# Altium schematic symbol library SCH - MCU - NUVOTON - NUVOTON KM1M7AF00M.SchLib: 1 symbol
Pins are listed as number, name and electrical type; pins without a type are passive.

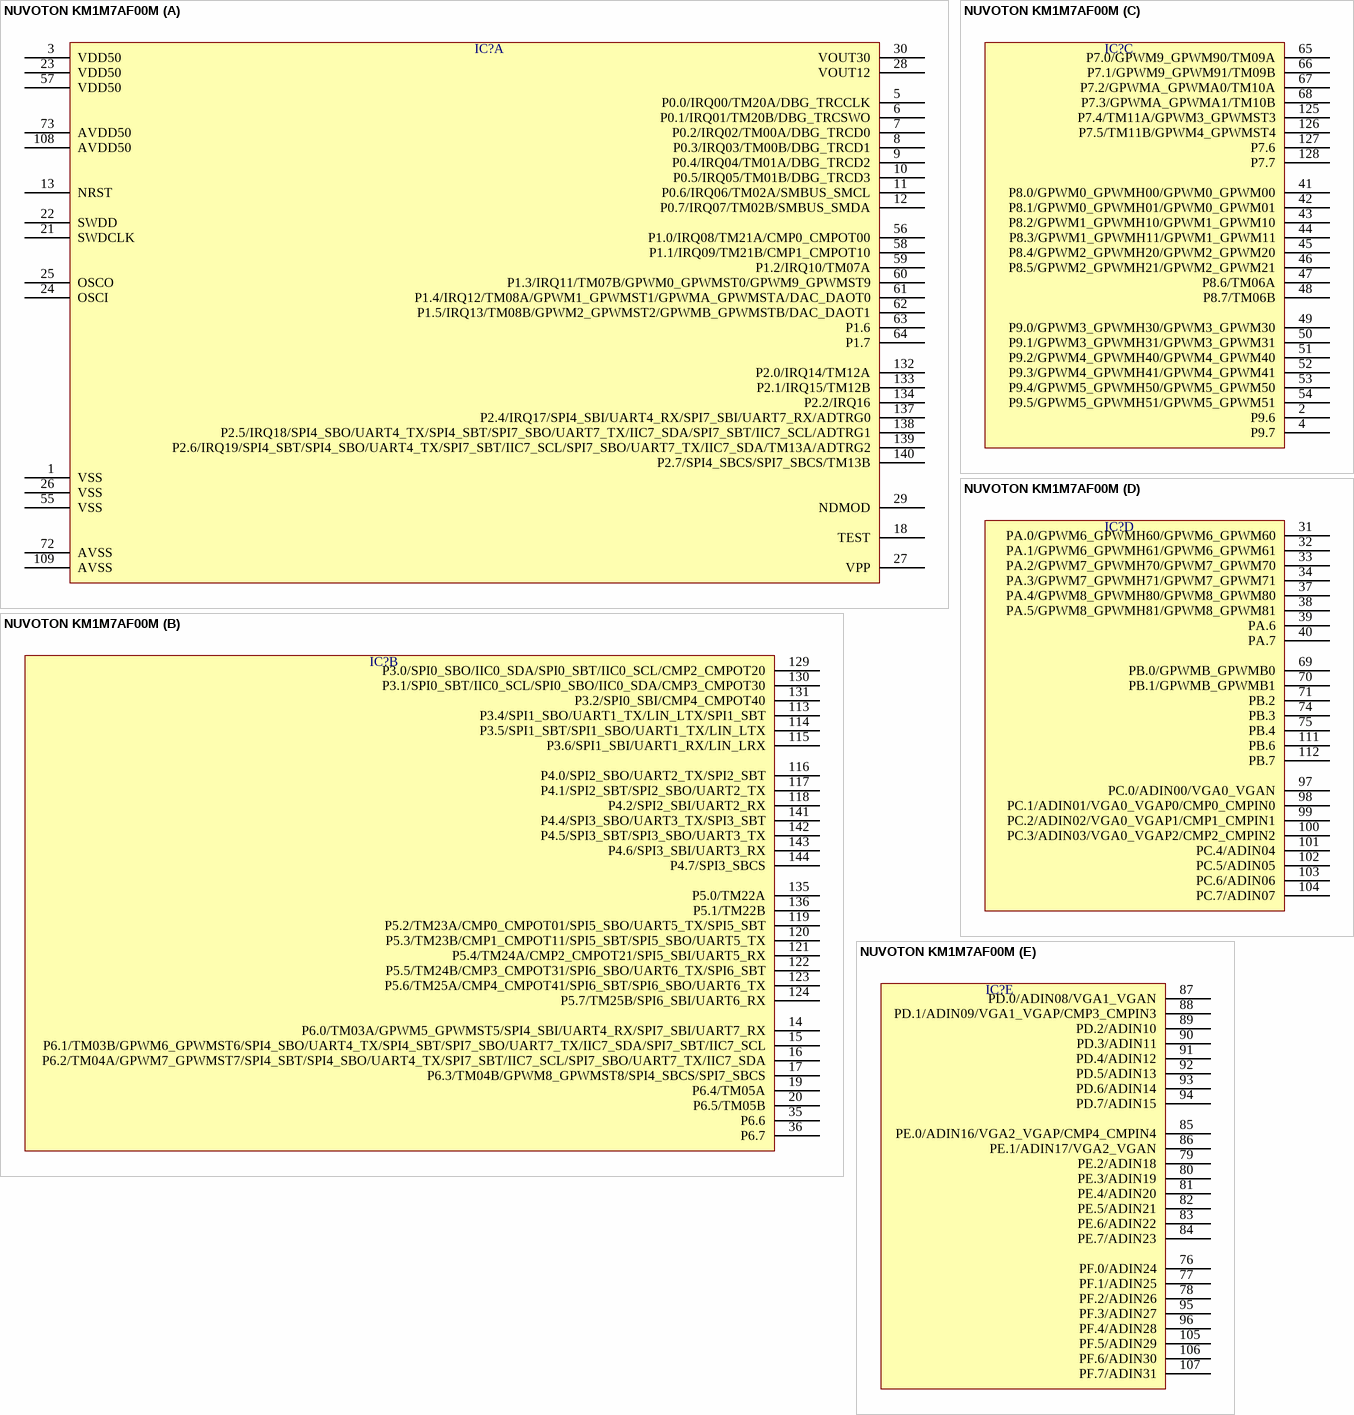
[diagram p0: symbol NUVOTON KM1M7AF00M]

## NUVOTON KM1M7AF00M
designator IC?  (value not drawn)
part A pins: 1 VSS, 3 VDD50, 5 P0.0/IRQ00/TM20A/DBG_TRCCLK, 6 P0.1/IRQ01/TM20B/DBG_TRCSWO, 7 P0.2/IRQ02/TM00A/DBG_TRCD0, 8 P0.3/IRQ03/TM00B/DBG_TRCD1, 9 P0.4/IRQ04/TM01A/DBG_TRCD2, 10 P0.5/IRQ05/TM01B/DBG_TRCD3, 11 P0.6/IRQ06/TM02A/SMBUS_SMCL, 12 P0.7/IRQ07/TM02B/SMBUS_SMDA, 13 NRST, 18 TEST, 21 SWDCLK, 22 SWDD, 23 VDD50, 24 OSCI, 25 OSCO, 26 VSS, 27 VPP, 28 VOUT12, 29 NDMOD, 30 VOUT30, 55 VSS, 56 P1.0/IRQ08/TM21A/CMP0_CMPOT00, 57 VDD50, 58 P1.1/IRQ09/TM21B/CMP1_CMPOT10, 59 P1.2/IRQ10/TM07A, 60 P1.3/IRQ11/TM07B/GPWM0_GPWMST0/GPWM9_GPWMST9, 61 P1.4/IRQ12/TM08A/GPWM1_GPWMST1/GPWMA_GPWMSTA/DAC_DAOT0, 62 P1.5/IRQ13/TM08B/GPWM2_GPWMST2/GPWMB_GPWMSTB/DAC_DAOT1, 63 P1.6, 64 P1.7, 72 AVSS, 73 AVDD50, 108 AVDD50, 109 AVSS, 132 P2.0/IRQ14/TM12A, 133 P2.1/IRQ15/TM12B, 134 P2.2/IRQ16, 137 P2.4/IRQ17/SPI4_SBI/UART4_RX/SPI7_SBI/UART7_RX/ADTRG0, 138 P2.5/IRQ18/SPI4_SBO/UART4_TX/SPI4_SBT/SPI7_SBO/UART7_TX/IIC7_SDA/SPI7_SBT/IIC7_SCL/ADTRG1, 139 P2.6/IRQ19/SPI4_SBT/SPI4_SBO/UART4_TX/SPI7_SBT/IIC7_SCL/SPI7_SBO/UART7_TX/IIC7_SDA/TM13A/ADTRG2, 140 P2.7/SPI4_SBCS/SPI7_SBCS/TM13B
part B pins: 14 P6.0/TM03A/GPWM5_GPWMST5/SPI4_SBI/UART4_RX/SPI7_SBI/UART7_RX, 15 P6.1/TM03B/GPWM6_GPWMST6/SPI4_SBO/UART4_TX/SPI4_SBT/SPI7_SBO/UART7_TX/IIC7_SDA/SPI7_SBT/IIC7_SCL, 16 P6.2/TM04A/GPWM7_GPWMST7/SPI4_SBT/SPI4_SBO/UART4_TX/SPI7_SBT/IIC7_SCL/SPI7_SBO/UART7_TX/IIC7_SDA, 17 P6.3/TM04B/GPWM8_GPWMST8/SPI4_SBCS/SPI7_SBCS, 19 P6.4/TM05A, 20 P6.5/TM05B, 35 P6.6, 36 P6.7, 113 P3.4/SPI1_SBO/UART1_TX/LIN_LTX/SPI1_SBT, 114 P3.5/SPI1_SBT/SPI1_SBO/UART1_TX/LIN_LTX, 115 P3.6/SPI1_SBI/UART1_RX/LIN_LRX, 116 P4.0/SPI2_SBO/UART2_TX/SPI2_SBT, 117 P4.1/SPI2_SBT/SPI2_SBO/UART2_TX, 118 P4.2/SPI2_SBI/UART2_RX, 119 P5.2/TM23A/CMP0_CMPOT01/SPI5_SBO/UART5_TX/SPI5_SBT, 120 P5.3/TM23B/CMP1_CMPOT11/SPI5_SBT/SPI5_SBO/UART5_TX, 121 P5.4/TM24A/CMP2_CMPOT21/SPI5_SBI/UART5_RX, 122 P5.5/TM24B/CMP3_CMPOT31/SPI6_SBO/UART6_TX/SPI6_SBT, 123 P5.6/TM25A/CMP4_CMPOT41/SPI6_SBT/SPI6_SBO/UART6_TX, 124 P5.7/TM25B/SPI6_SBI/UART6_RX, 129 P3.0/SPI0_SBO/IIC0_SDA/SPI0_SBT/IIC0_SCL/CMP2_CMPOT20, 130 P3.1/SPI0_SBT/IIC0_SCL/SPI0_SBO/IIC0_SDA/CMP3_CMPOT30, 131 P3.2/SPI0_SBI/CMP4_CMPOT40, 135 P5.0/TM22A, 136 P5.1/TM22B, 141 P4.4/SPI3_SBO/UART3_TX/SPI3_SBT, 142 P4.5/SPI3_SBT/SPI3_SBO/UART3_TX, 143 P4.6/SPI3_SBI/UART3_RX, 144 P4.7/SPI3_SBCS
part C pins: 2 P9.6, 4 P9.7, 41 P8.0/GPWM0_GPWMH00/GPWM0_GPWM00, 42 P8.1/GPWM0_GPWMH01/GPWM0_GPWM01, 43 P8.2/GPWM1_GPWMH10/GPWM1_GPWM10, 44 P8.3/GPWM1_GPWMH11/GPWM1_GPWM11, 45 P8.4/GPWM2_GPWMH20/GPWM2_GPWM20, 46 P8.5/GPWM2_GPWMH21/GPWM2_GPWM21, 47 P8.6/TM06A, 48 P8.7/TM06B, 49 P9.0/GPWM3_GPWMH30/GPWM3_GPWM30, 50 P9.1/GPWM3_GPWMH31/GPWM3_GPWM31, 51 P9.2/GPWM4_GPWMH40/GPWM4_GPWM40, 52 P9.3/GPWM4_GPWMH41/GPWM4_GPWM41, 53 P9.4/GPWM5_GPWMH50/GPWM5_GPWM50, 54 P9.5/GPWM5_GPWMH51/GPWM5_GPWM51, 65 P7.0/GPWM9_GPWM90/TM09A, 66 P7.1/GPWM9_GPWM91/TM09B, 67 P7.2/GPWMA_GPWMA0/TM10A, 68 P7.3/GPWMA_GPWMA1/TM10B, 125 P7.4/TM11A/GPWM3_GPWMST3, 126 P7.5/TM11B/GPWM4_GPWMST4, 127 P7.6, 128 P7.7
part D pins: 31 PA.0/GPWM6_GPWMH60/GPWM6_GPWM60, 32 PA.1/GPWM6_GPWMH61/GPWM6_GPWM61, 33 PA.2/GPWM7_GPWMH70/GPWM7_GPWM70, 34 PA.3/GPWM7_GPWMH71/GPWM7_GPWM71, 37 PA.4/GPWM8_GPWMH80/GPWM8_GPWM80, 38 PA.5/GPWM8_GPWMH81/GPWM8_GPWM81, 39 PA.6, 40 PA.7, 69 PB.0/GPWMB_GPWMB0, 70 PB.1/GPWMB_GPWMB1, 71 PB.2, 74 PB.3, 75 PB.4, 97 PC.0/ADIN00/VGA0_VGAN, 98 PC.1/ADIN01/VGA0_VGAP0/CMP0_CMPIN0, 99 PC.2/ADIN02/VGA0_VGAP1/CMP1_CMPIN1, 100 PC.3/ADIN03/VGA0_VGAP2/CMP2_CMPIN2, 101 PC.4/ADIN04, 102 PC.5/ADIN05, 103 PC.6/ADIN06, 104 PC.7/ADIN07, 111 PB.6, 112 PB.7
part E pins: 76 PF.0/ADIN24, 77 PF.1/ADIN25, 78 PF.2/ADIN26, 79 PE.2/ADIN18, 80 PE.3/ADIN19, 81 PE.4/ADIN20, 82 PE.5/ADIN21, 83 PE.6/ADIN22, 84 PE.7/ADIN23, 85 PE.0/ADIN16/VGA2_VGAP/CMP4_CMPIN4, 86 PE.1/ADIN17/VGA2_VGAN, 87 PD.0/ADIN08/VGA1_VGAN, 88 PD.1/ADIN09/VGA1_VGAP/CMP3_CMPIN3, 89 PD.2/ADIN10, 90 PD.3/ADIN11, 91 PD.4/ADIN12, 92 PD.5/ADIN13, 93 PD.6/ADIN14, 94 PD.7/ADIN15, 95 PF.3/ADIN27, 96 PF.4/ADIN28, 105 PF.5/ADIN29, 106 PF.6/ADIN30, 107 PF.7/ADIN31